# Altium footprint library GTZ1050_ED01r1.PcbLib: 25 footprints (part 1 of 2)
Each footprint in its own frame and in the unit in brackets; x right, y up, seen from the top. Pads: shape width x height; smd on the part's side, far side on the other; paste and mask are expansions set on the pad; w line width, h text height; cw(c..) or ccw(c..) is an arc to the next point about the centre after c.
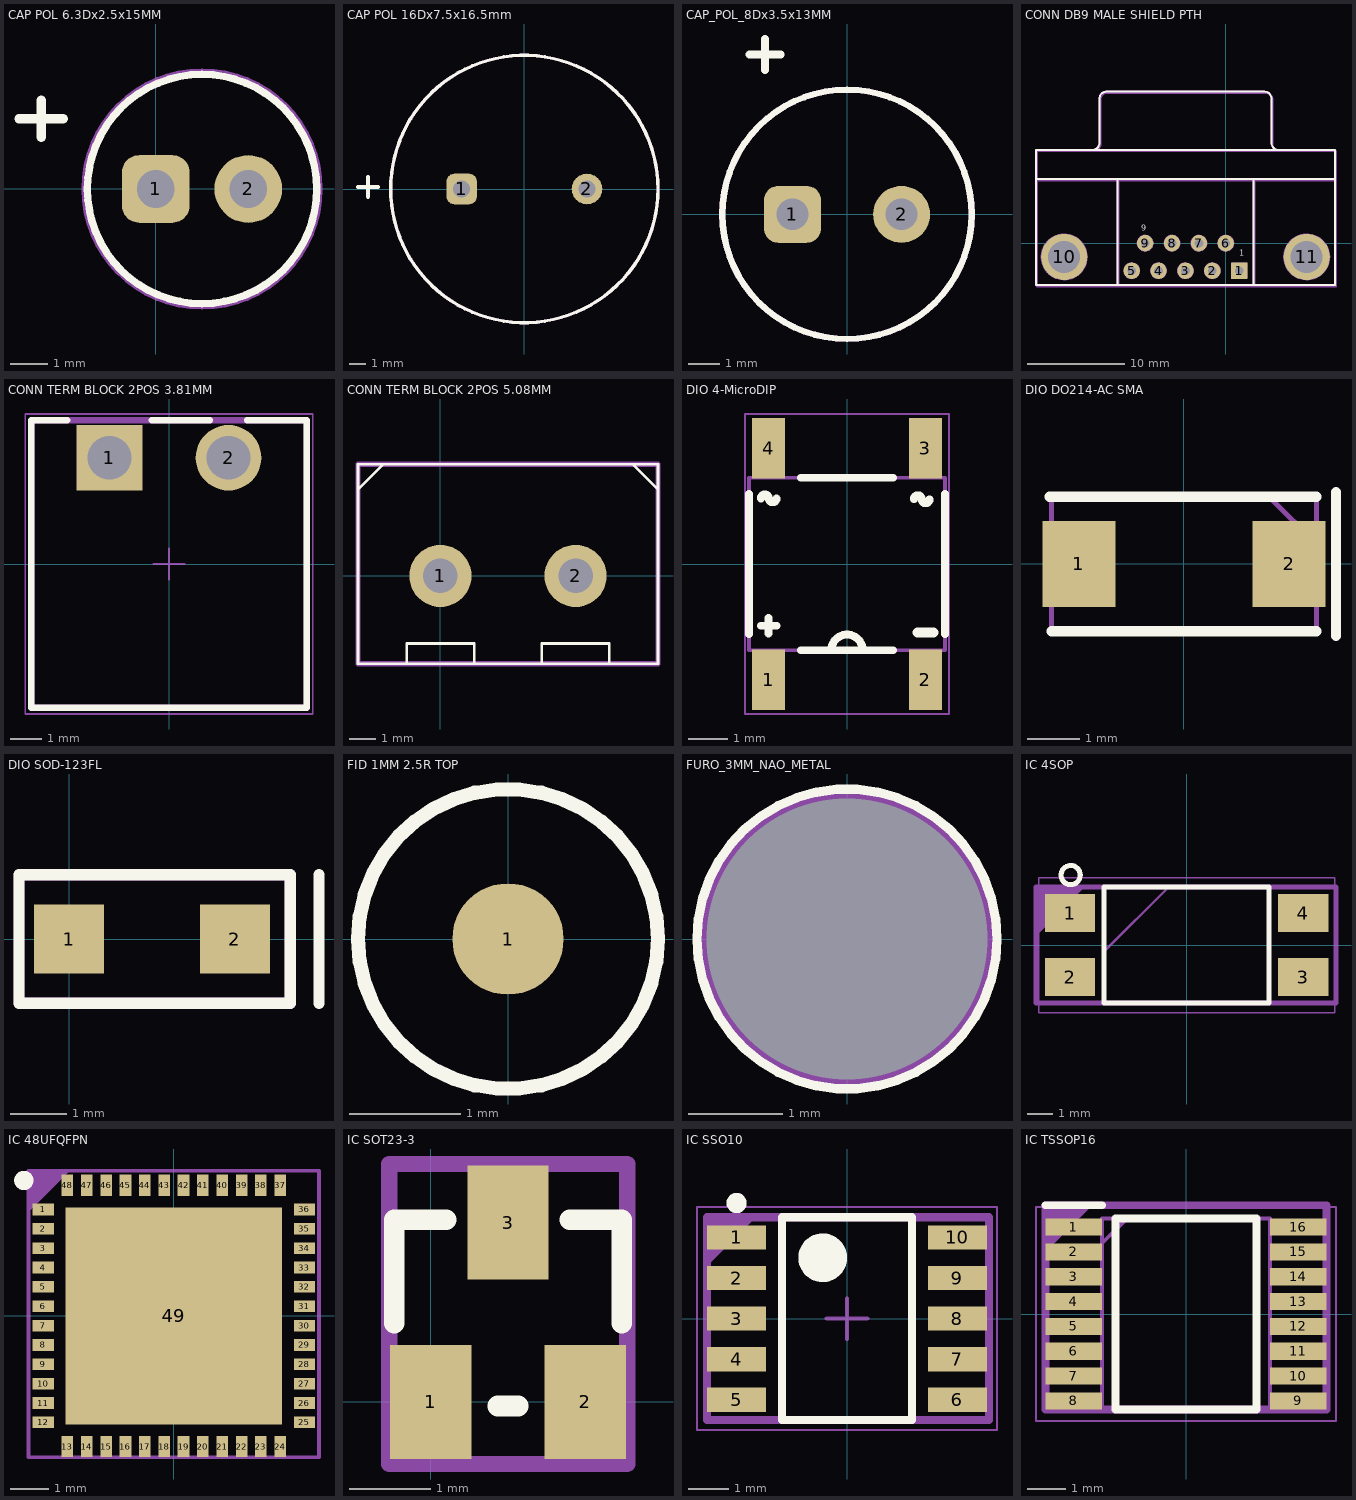
[diagram p0: the footprints below, top view; thin cyan lines are the x and y axes]

## CAP POL 6.3Dx2.5x15MM [mil]
pads (2):
  rrect50% 72x72 hole 40: 1(0,0)
  round 72 hole 40: 2(98.43,0)
Top Overlay:
  circle w7.87: c49.21,0 r122.05
  lines w10: -145.64,74.82 -98.5,74.82 ; -122,55.14 -122,94.51
Top Assembly:
  circle w7.87: c49.21,0 r124.5
  text "'.Designator'" at -45,-55 h39.37
  text "+++" at -45,-25 h39.37
3D body "Cap electro 6_3x11x2_5mm.step": height 444.42, standoff -128.01, extent -75.8,-125.01 174.23,125.02

## CAP POL 16Dx7.5x16.5mm [mil]
pads (2):
  rrect50% 72x72 hole 40: 1(-147.64,0)
  round 72 hole 40: 2(147.64,0)
Top Overlay:
  circle w7.87: c0,0 r314.96
  lines w10: -391.92,5 -344.92,5 ; -368.42,-18.5 -368.42,28.5
Top Assembly:
  circle w7.87: c0,0 r314.96
  text "+++" at -275,-35 h39.37
  text "'.Designator'" at -90,-85 h39.37
3D body: height 649.61, standoff 0, extent -314.95,-314.95 314.97,314.97

## CAP_POL_8Dx3.5x13MM [mil]
pads (2):
  rrect50% 72x72 hole 40: 1(-68.9,0)
  round 72 hole 40: 2(68.9,0)
Top Overlay:
  circle w7.87: c0,0 r157.48
  lines w10: -123.01,201.78 -83.64,201.78 ; -103.32,182.09 -103.32,221.46
Top Assembly:
  circle w7.87: c0,0 r157.48
  text "+++" at -102.54,-26.9 h39.37
  text "'.Designator'" at -95,-60 h39.37
3D body: height 413.39, standoff 0, extent -196.85,-196.85 196.85,196.85

## CONN DB9 MALE SHIELD PTH [mm]
pads (11):
  rect 1.69x1.69 hole 0.9: 1(1.385,-2.84)
  round 1.69 hole 0.9: 2(-1.385,-2.84) 3(-4.155,-2.84) 4(-6.925,-2.84) 5(-9.695,-2.84) 6(0,0) 7(-2.77,0) 8(-5.54,0) 9(-8.31,0)
  round 4.76 hole 3.3: 10(-16.65,-1.42) 11(8.34,-1.42)
Top Overlay:
  lines w0.2: -19.555,6.604 11.245,6.604 ; -13.715,9.609 ccw(c-13.715,10.304) -13.02,10.304 -13.02,14.904 ; -13.015,14.909 cw(c-12.32,14.909) -12.32,15.604 4.01,15.604 cw(c4.01,14.909) 4.705,14.909 ; -11.155,-4.32 -11.155,6.604 ; 2.845,-4.32 2.845,6.604 ; 4.71,14.904 4.71,10.304 ccw(c5.405,10.304) 5.405,9.609 ; -19.555,-4.32 11.245,-4.32 11.245,9.604 -19.555,9.604 -19.555,-4.32
  text "9" at -8.709,1.095 h1
  text "1" at 1.4,-1.5 h1
Mechanical 7:
  circle w0.2: c-16.65,-1.42 r2.327
  circle w0.2: c8.34,-1.42 r2.327
  circle w0.2: c0,0 r0.773
  circle w0.2: c-2.77,0 r0.773
  circle w0.2: c-5.54,0 r0.773
  circle w0.2: c-8.31,0 r0.773
  circle w0.2: c-9.695,-2.84 r0.773
  circle w0.2: c-6.925,-2.84 r0.773
  circle w0.2: c-4.155,-2.84 r0.773
  circle w0.2: c-1.385,-2.84 r0.773
  lines w0.2: -19.555,6.604 11.245,6.604 ; -13.715,9.609 ccw(c-13.715,10.304) -13.02,10.304 -13.02,14.904 ; -13.015,14.909 cw(c-12.32,14.909) -12.32,15.604 4.01,15.604 cw(c4.01,14.909) 4.705,14.909 ; -11.155,-4.32 -11.155,6.604 ; 2.845,-4.32 2.845,6.604 ; 4.71,14.904 4.71,10.304 ccw(c5.405,10.304) 5.405,9.609 ; -19.555,-4.32 -19.555,9.604 11.245,9.604 11.245,-4.32 -19.555,-4.32 ; 0.635,-3.59 0.635,-2.84 0.635,-2.09 2.135,-2.09 2.135,-3.59 0.635,-3.59
Top Assembly:
  lines w0.2: -19.444,6.477 11.356,6.477 ; -13.604,9.482 ccw(c-13.604,10.177) -12.909,10.177 -12.909,14.777 ; -12.904,14.782 cw(c-12.209,14.782) -12.209,15.477 4.121,15.477 cw(c4.121,14.782) 4.816,14.782 ; -11.044,-4.447 -11.044,6.477 ; 2.956,-4.447 2.956,6.477 ; 4.821,14.777 4.821,10.177 ccw(c5.516,10.177) 5.516,9.482 ; -19.444,-4.447 11.356,-4.447 11.356,9.477 -19.444,9.477 -19.444,-4.447
  text "9" at -8.598,0.968 h1
  text "1" at 1.511,-1.627 h1
  text "'.Designator'" at -12.573,3.556 h1.52
3D body "SW3DPS-DB9RA_copy.STEP": height 12.66, standoff -3.39, extent -19.848,-4.328 11.466,16.377
3D body: height 4.5, standoff 4, extent -18.528,-1.113 -14.985,5.568
3D body: height 4.5, standoff 4, extent 6.626,-0.892 10.169,5.789
3D body: height 4, standoff -3, extent 8.804,-1.354 9.749,-0.899
3D body: height 4, standoff -3, extent 6.914,-1.537 7.981,-0.808
3D body: height 4, standoff -3, extent -16.299,-1.641 -15.232,-0.912
3D body: height 4, standoff -3, extent -18.067,-1.549 -17.122,-1.095

## CONN TERM BLOCK 2POS 3.81MM [mm]
pads (2):
  rect 2.1x2.1 hole 1.4: 1(-1.905,3.4)
  round 2.1 hole 1.4: 2(1.905,3.4)
Top Overlay:
  lines w0.2: -3.255,4.6 -4.405,4.6 -4.405,-4.6 4.405,-4.6 4.405,4.6 2.495,4.6 ; -0.555,4.6 1.315,4.6
Mechanical 13:
  lines w0.1: -4.405,-4.6 4.405,-4.6 4.405,4.6 -4.405,4.6 -4.405,-4.6
Mechanical 15:
  lines w0.05: -0.5,0 0.5,0 ; 0,-0.5 0,0.5 ; -4.605,-4.8 4.605,-4.8 4.605,4.8 -4.605,4.8 -4.605,-4.8
Top Assembly:
  lines w0.2: -4.405,-4.6 4.405,-4.6 4.405,4.6 -4.405,4.6 -4.405,-4.6
  text "'.Designator'" at -2.413,0.062 h1
3D body "691322310002.stp": height 7.25, standoff -3.45, extent -4.405,-4.6 4.405,4.6

## CONN TERM BLOCK 2POS 5.08MM [mm]
pads (2):
  round 2.34 hole 1.3 paste+0 mask+0.025: 1(0,0) 2(5.08,0)
Top Overlay:
  lines w0.102: -3.048,3.302 -2.159,4.191 ; -1.27,-3.302 -1.27,-2.54 1.27,-2.54 1.27,-3.302 ; 3.81,-3.302 3.81,-2.54 6.35,-2.54 6.35,-3.302 ; 7.239,4.191 8.128,3.302 ; -3.1,-3.3 8.18,-3.3 8.18,4.2 -3.1,4.2 -3.1,-3.3
Top Assembly:
  lines w0.2: -3.1,-3.3 8.18,-3.3 8.18,4.2 -3.1,4.2 -3.1,-3.3
  text "'.Designator'" at -0.275,1.989 h1
3D body "terminal_blocks_a-tb508-tc02.stp": height 9.96, standoff -3.39, extent -3.14,-3.309 8.22,4.191

## DIO 4-MicroDIP [mm]
pads (4):
  rect 0.85x1.55 smd: 1(-2,-2.95) 2(2,-2.95) 3(2,2.95) 4(-2,2.95)
Top Overlay:
  lines w0.2: -2.5,-1.782 -2.5,1.782 ; -2.2,-1.575 -1.8,-1.575 ; -2.195,1.675 cw(c-2.095,1.675) -1.996,1.675 ccw(c-1.896,1.675) -1.796,1.675 ; -2,-1.775 -2,-1.375 ; -1.175,-2.2 1.175,-2.2 ; -1.175,2.2 1.175,2.2 ; -0.4,-2.2 cw(c0,-2.2) 0.4,-2.2 ; 1.705,1.651 cw(c1.805,1.651) 1.905,1.651 ccw(c2.005,1.651) 2.105,1.651 ; 2.5,-1.782 2.5,1.782
  lines w0.254: 1.8,-1.748 2.2,-1.748
Mechanical 13:
  lines w0.1: -2.5,-2.2 2.5,-2.2 2.5,2.2 -2.5,2.2 -2.5,-2.2
Top Assembly:
  lines w0.05: -2.6,-3.825 2.6,-3.825 2.6,3.825 -2.6,3.825 -2.6,-3.825
  text "'.Designator'" at -1.524,-0.254 h1
3D body: height 1.6, standoff 0.05, extent -2.5,-2.2 2.5,2.2

## DIO DO214-AC SMA [mm]
pads (2):
  rect 1.4x1.64 smd: 1(-2.015,0) 2(2.015,0)
Top Overlay:
  lines w0.2: -2.571,1.288 2.538,1.288 ; -2.538,-1.288 2.538,-1.288 ; 2.914,-1.372 2.914,1.372
Top Assembly:
  lines w0.1: 1.651,1.27 2.54,0.381 ; -2.538,-1.288 -2.538,1.288 2.538,1.288 2.538,-1.288 -2.538,-1.288
  text "'.Designator'" at -2.538,-0.208 h1
3D body "STTH1L06A.stp": height 2.65, standoff 0, extent -2.537,-1.287 2.538,1.288

## DIO SOD-123FL [mm]
pads (2):
  rect 1.25x1.22 smd: 1(0,0) 2(2.95,0)
Top Overlay:
  lines w0.203: 4.445,-1.143 4.445,1.143 ; -0.889,-1.143 3.937,-1.143 3.937,1.143 -0.889,1.143 -0.889,-1.143
Top Assembly:
  lines w0.203: -0.889,-1.143 3.937,-1.143 3.937,1.143 -0.889,1.143 -0.889,-1.143
  text "'.Designator'" at -0.889,-0.312 h1
3D body "MBR140SF.STEP": height 0.97, standoff 0.01, extent -0.37,-0.825 3.23,0.825

## FID 1MM 2.5R TOP [mm]
pads (1):
  round 1 smd paste-0.5 mask+0.8: 1(0,0)
Top Overlay:
  circle w0.127: c0,0 r1.346
Top Assembly:
  circle w0.1: c0,0 r1.346
  text "'.Designator'" at -1.025,-0.261 h1

## FURO_3MM_NAO_METAL [mm]
pads (1):
  round 0 hole 3 unplated: 1(0,0)
Top Overlay:
  circle w0.1: c0,0 r1.6
Mechanical 1:
  circle w0.2: c0,0 r1.5
  text "H2" at -1.193,-0.3 h1
Top Assembly:
  circle w0.254: c0,0 r1.475
  text "'.Designator'" at -1.426,-0.187 h1

## IC 4SOP [mm]
pads (4):
  rect 2x1.5 smd: 1(-4.625,1.27) 2(-4.625,-1.27) 3(4.625,-1.27) 4(4.625,1.27)
Top Overlay:
  circle w0.2: c-4.6,2.775 r0.381
  lines w0.2: -3.275,-2.3 3.275,-2.3 3.275,2.3 -3.275,2.3 -3.275,-2.3
Mechanical 13:
  lines w0.1: -3.25,-0.24 -0.71,2.3 ; -3.25,-2.3 3.25,-2.3 3.25,2.3 -3.25,2.3 -3.25,-2.3
Mechanical 15:
  lines w0.05: -5.875,-2.675 5.875,-2.675 5.875,2.675 -5.875,2.675 -5.875,-2.675
Top Assembly:
  region: -5.975,2.3 -5.975,0.378 -5.974,0.378 -4.052,2.3
  lines w0.2: -5.975,-2.3 -5.975,2.3 -3.275,2.3 5.925,2.3 5.925,-2.3 -5.975,-2.3
  text "'.Designator'" at -5.721,-0.475 h1.52
3D body "TLP781(GB-LF6,F).stp": height 3.9, standoff 0, extent -5.15,-2.3 5.15,2.3

## IC 48UFQFPN [mm]
pads (49):
  rect 0.55x0.3 smd mask+0: 1(-3.375,2.75) 2(-3.375,2.25) 3(-3.375,1.75) 4(-3.375,1.25) 5(-3.375,0.75) 6(-3.375,0.25) 7(-3.375,-0.25) 8(-3.375,-0.75) 9(-3.375,-1.25) 10(-3.375,-1.75) 11(-3.375,-2.25) 12(-3.375,-2.75) 25(3.375,-2.75) 26(3.375,-2.25) 27(3.375,-1.75) 28(3.375,-1.25) 29(3.375,-0.75) 30(3.375,-0.25) 31(3.375,0.25) 32(3.375,0.75) 33(3.375,1.25) 34(3.375,1.75) 35(3.375,2.25) 36(3.375,2.75)
  rect 0.3x0.55 smd mask+0: 13(-2.75,-3.375) 14(-2.25,-3.375) 15(-1.75,-3.375) 16(-1.25,-3.375) 17(-0.75,-3.375) 18(-0.25,-3.375) 19(0.25,-3.375) 20(0.75,-3.375) 21(1.25,-3.375) 22(1.75,-3.375) 23(2.25,-3.375) 24(2.75,-3.375) 37(2.75,3.375) 38(2.25,3.375) 39(1.75,3.375) 40(1.25,3.375) 41(0.75,3.375) 42(0.25,3.375) 43(-0.25,3.375) 44(-0.75,3.375) 45(-1.25,3.375) 46(-1.75,3.375) 47(-2.25,3.375) 48(-2.75,3.375)
  rect 5.6x5.6 smd mask+0.05: 49(0,0)
Top Overlay:
  circle w0.25: c-3.875,3.5 r0.125
Top Assembly:
  region: -3.75,3.75 -3.75,2.686 -2.686,3.75
  region: -3.5,3.5
  lines w0.1: -3.75,-3.65 -3.75,3.75 3.75,3.75 3.75,-3.65 -3.75,-3.65
  text "'.Designator'" at -2.35,-0.211 h1
3D body "STM32F413CGU6.stp": height 0.6, standoff 0, extent -3.55,-3.55 3.55,3.55

## IC SOT23-3 [mm]
pads (3):
  rect 1x1.4 smd: 1(0,0) 2(1.9,0) 3(0.95,2.2)
Top Overlay:
  lines w0.254: -0.447,0.966 -0.447,2.236 0.188,2.236 ; 0.823,-0.05 1.077,-0.05 ; 1.712,2.236 2.347,2.236 2.347,0.966
Top Assembly:
  rectangle: -0.508,-0.762 0.201,-0.022
  lines w0.2: -0.508,-0.762 -0.508,2.921 2.413,2.921 2.413,-0.762 -0.508,-0.762
  text "'.Designator'" at -0.508,0.798 h1
3D body "SOT-23.step": height 1.01, standoff -0.09, extent -0.55,-0.15 2.45,2.35

## IC SSO10 [mm]
pads (10):
  rect 1.45x0.6 smd mask+0.08: 1(-2.725,2) 2(-2.725,1) 3(-2.725,0) 4(-2.725,-1) 5(-2.725,-2) 6(2.725,-2) 7(2.725,-1) 8(2.725,0) 9(2.725,1) 10(2.725,2)
Top Overlay:
  circle w0.6: c-0.6,1.5 r0.3
  circle w0.25: c-2.725,2.85 r0.125
  lines w0.2: -1.6,-2.5 -1.6,2.5 1.6,2.5 1.6,-2.5 -1.6,-2.5
Mechanical 15:
  lines w0.05: -3.7,-2.75 3.7,-2.75 3.7,2.75 -3.7,2.75 -3.7,-2.75
  lines w0.1: -0.5,0 0.5,0 ; 0,-0.5 0,0.5
Top Assembly:
  region: -3.45,2.5 -3.45,1.3 -2.25,2.5
  lines w0.2: -3.45,-2.5 -3.45,2.5 3.5,2.5 3.5,-2.5 -3.45,-2.5
  text "'.Designator'" at -2.342,-0.111 h1
3D body "SSO10-1.step": height 1.33, standoff -0.02, extent -3.015,-2.45 3.015,2.45

## IC TSSOP16 [mm]
pads (16):
  rect 1.48x0.45 smd mask+0: 1(-2.935,2.275) 2(-2.935,1.625) 3(-2.935,0.975) 4(-2.935,0.325) 5(-2.935,-0.325) 6(-2.935,-0.975) 7(-2.935,-1.625) 8(-2.935,-2.275) 9(2.935,-2.275) 10(2.935,-1.625) 11(2.935,-0.975) 12(2.935,-0.325) 13(2.935,0.325) 14(2.935,0.975) 15(2.935,1.625) 16(2.935,2.275)
Top Overlay:
  lines w0.2: -3.675,2.85 -2.195,2.85 ; -1.845,-2.5 -1.845,2.5 1.845,2.5 1.845,-2.5 -1.845,-2.5
Mechanical 13:
  lines w0.1: -2.195,1.85 -1.545,2.5 ; -2.195,-2.5 -2.195,2.5 2.195,2.5 2.195,-2.5 -2.195,-2.5
Mechanical 15:
  lines w0.05: -3.925,-2.8 -3.925,2.8 3.925,2.8 3.925,-2.8 -3.925,-2.8
Top Assembly:
  region: -3.675,2.85 -3.675,1.625 -2.45,2.85
  lines w0.2: -3.675,-2.5 3.675,-2.5 3.675,2.85 -3.675,2.85 -3.675,-2.5 ; -3.675,-2.5 -3.675,-2.5
  text "'.Designator'" at -2.195,-0.136 h1
3D body "ST3232EBTR.stp": height 1.2, standoff 0, extent -3.2,-2.5 3.2,2.5